# EAGLE library part STM32L052X6 (library stm32)
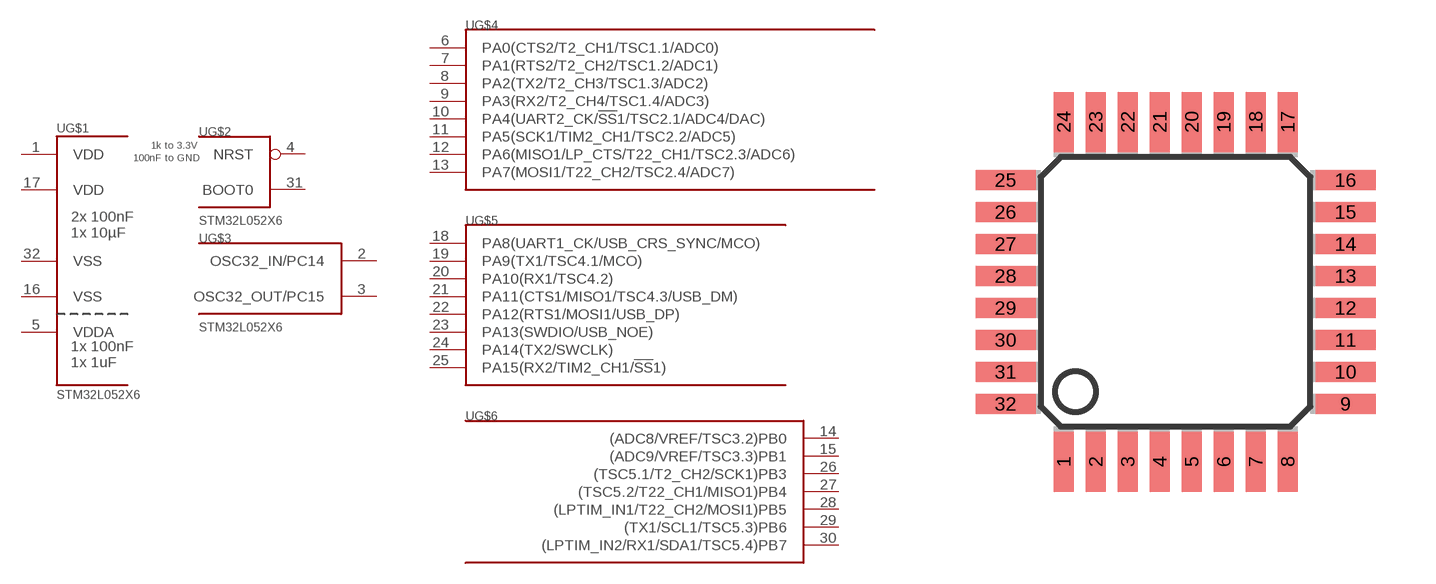
[diagram p9: symbol with the pads of TQFP32; footprint TQFP32]

Designator prefix -; gates G$1=STM32L052X6_POWER G$2=BOOT_RST G$3=STM32L052X6_OSC32 G$4=STM32L052X6_PORT_A_L G$5=STM32L052X6_PORT_A_H G$6=STM32L052X6_PORT_B

## STM32L052X6  [TQFP32]
1  G$1:VDD  pwr
2  G$3:OSC32_IN/PC14  in
3  G$3:OSC32_OUT/PC15  out
4  G$2:NRST  in
5  G$1:VDDA  pwr
6  G$4:PA0(CTS2/T2_CH1/TSC1.1/ADC0)
7  G$4:PA1(RTS2/T2_CH2/TSC1.2/ADC1)
8  G$4:PA2(TX2/T2_CH3/TSC1.3/ADC2)
9  G$4:PA3(RX2/T2_CH4/TSC1.4/ADC3)
10  G$4:PA4(UART2_CK/!SS!1/TSC2.1/ADC4/DAC)
11  G$4:PA5(SCK1/TIM2_CH1/TSC2.2/ADC5)
12  G$4:PA6(MISO1/LP_CTS/T22_CH1/TSC2.3/ADC6)
13  G$4:PA7(MOSI1/T22_CH2/TSC2.4/ADC7)
14  G$6:(ADC8/VREF/TSC3.2)PB0
15  G$6:(ADC9/VREF/TSC3.3)PB1
16  G$1:VSS  pwr
17  G$1:VDD  pwr
18  G$5:PA8(UART1_CK/USB_CRS_SYNC/MCO)
19  G$5:PA9(TX1/TSC4.1/MCO)
20  G$5:PA10(RX1/TSC4.2)
21  G$5:PA11(CTS1/MISO1/TSC4.3/USB_DM)
22  G$5:PA12(RTS1/MOSI1/USB_DP)
23  G$5:PA13(SWDIO/USB_NOE)
24  G$5:PA14(TX2/SWCLK)
25  G$5:PA15(RX2/TIM2_CH1/!SS!1)
26  G$6:(TSC5.1/T2_CH2/SCK1)PB3
27  G$6:(TSC5.2/T22_CH1/MISO1)PB4
28  G$6:(LPTIM_IN1/T22_CH2/MOSI1)PB5
29  G$6:(TX1/SCL1/TSC5.3)PB6
30  G$6:(LPTIM_IN2/RX1/SDA1/TSC5.4)PB7
31  G$2:BOOT0  in
32  G$1:VSS  pwr

## Footprint TQFP32 (pad centres in mm)
TQFP32 / LQFP32 ST calls this LQFP32, but this lib seems to call this a TQFP32. This is the recommended LQFP32 footprint from the STM32L052x6 datasheet with some longer pads (the other footprints in this lib also use longer pads than the STM recommended ones). WARNING: Has not been verified yet!
smd 0.5 x 1.5: 1 -2.8,-4.25; 2 -2,-4.25; 3 -1.2,-4.25; 4 -0.4,-4.25; 5 0.4,-4.25; 6 1.2,-4.25; 7 2,-4.25; 8 2.8,-4.25; 17 2.8,4.25; 18 2,4.25; 19 1.2,4.25; 20 0.4,4.25; 21 -0.4,4.25; 22 -1.2,4.25; 23 -2,4.25; 24 -2.8,4.25
smd 1.5 x 0.5: 9 4.25,-2.8; 10 4.25,-2; 11 4.25,-1.2; 12 4.25,-0.4; 13 4.25,0.4; 14 4.25,1.2; 15 4.25,2; 16 4.25,2.8; 25 -4.25,2.8; 26 -4.25,2; 27 -4.25,1.2; 28 -4.25,0.4; 29 -4.25,-0.4; 30 -4.25,-1.2; 31 -4.25,-2; 32 -4.25,-2.8